# Altium footprint library MountingHole.PcbLib: 167 footprints (part 10 of 11)
Each footprint in its own frame and in the unit in brackets; x right, y up, seen from the top. Pads: shape width x height; smd on the part's side, far side on the other; paste and mask are expansions set on the pad; w line width, h text height; cw(c..) or ccw(c..) is an arc to the next point about the centre after c.
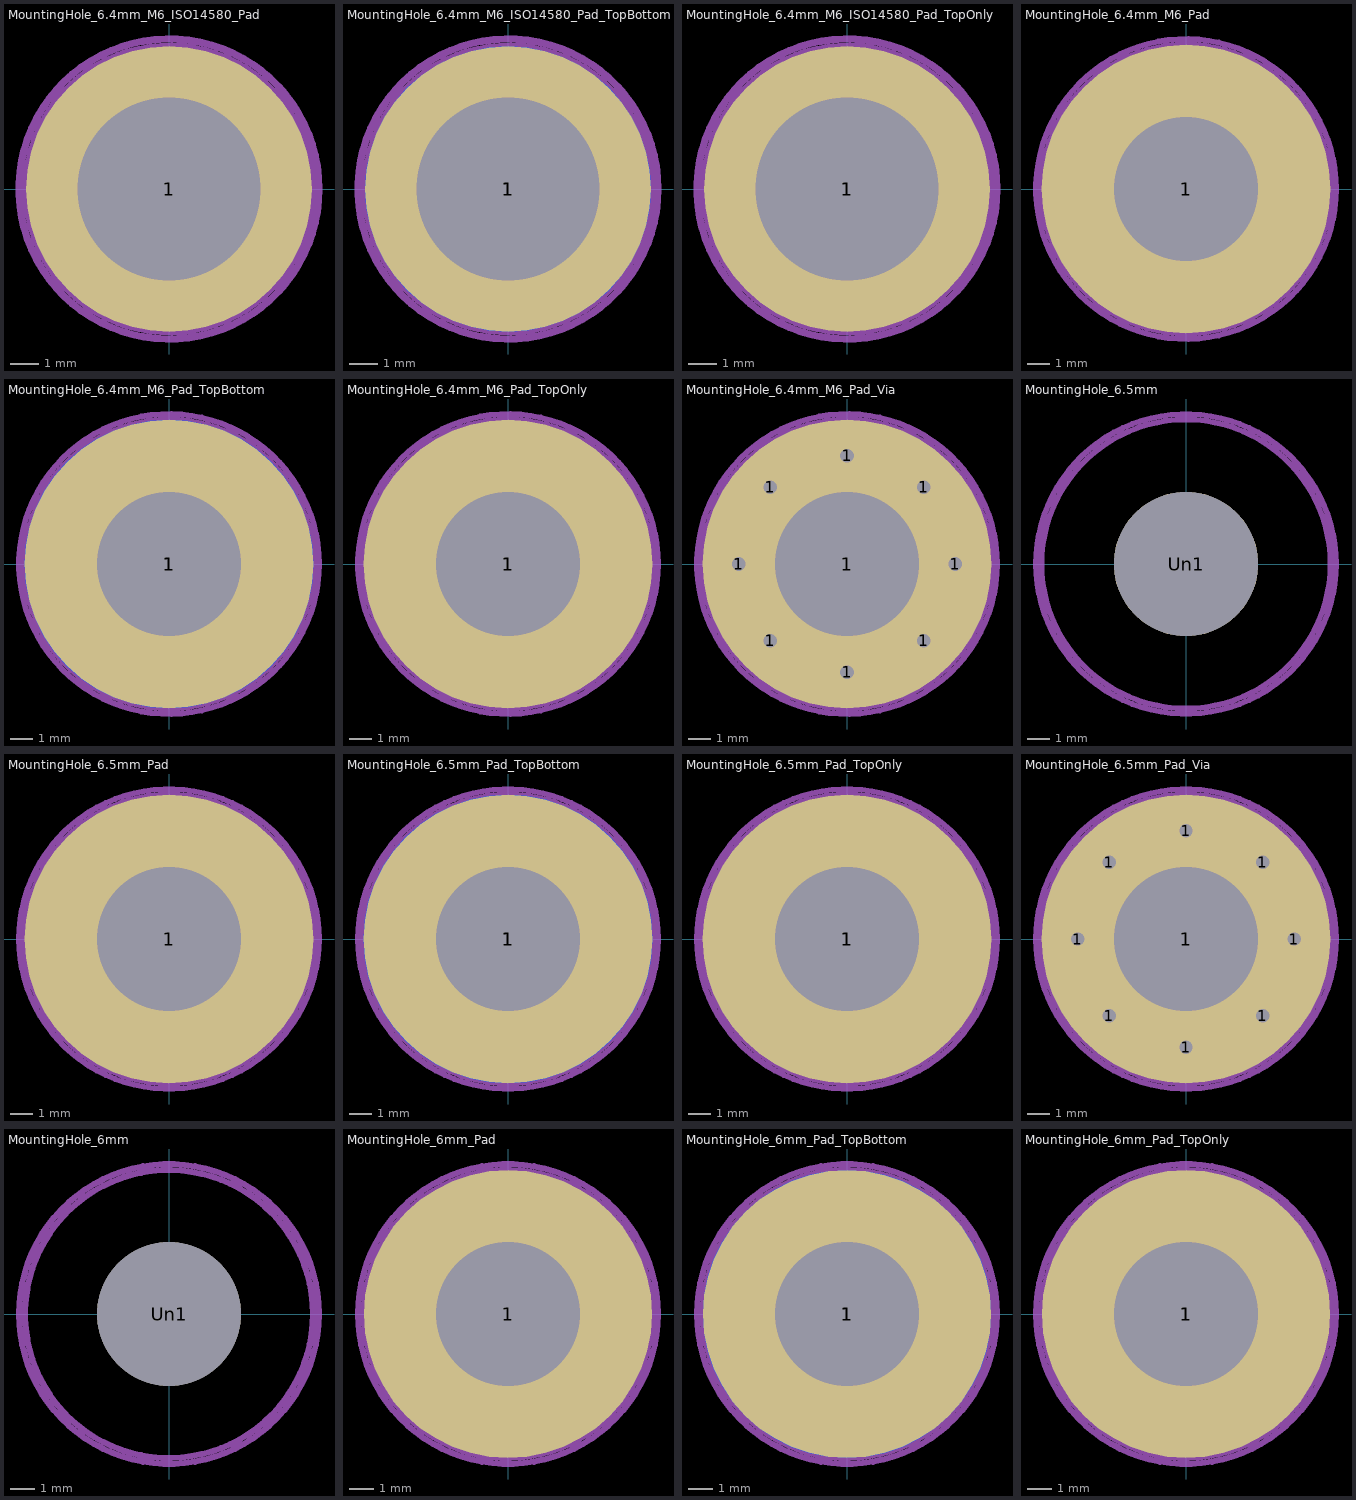
[diagram p9: the footprints below, top view; thin cyan lines are the x and y axes]

## MountingHole_6.4mm_M6_ISO14580_Pad [mm]
pads (1):
  round 10 hole 6.4: 1(0,0)
Top Assembly:
  text "'.Designator'" at -4.047,-0.84 h1
Top Courtyard:
  circle w0.254: c0,0 r5.25
Top Designator:
  text ".Designator" at -7.618,-0.508 h1.52
Cmts.User:
  circle w0.254: c0,0 r5

## MountingHole_6.4mm_M6_ISO14580_Pad_TopBottom [mm]
pads (3):
  round 6.8 hole 6.4: 1(0,0)
  round 10 smd: 1(0,0)
  round 10 smd far side: 1(0,0)
Top Assembly:
  text "'.Designator'" at -4.047,-0.84 h1
Top Courtyard:
  circle w0.254: c0,0 r5.25
Top Designator:
  text ".Designator" at -7.618,-0.508 h1.52
Cmts.User:
  circle w0.254: c0,0 r5

## MountingHole_6.4mm_M6_ISO14580_Pad_TopOnly [mm]
pads (2):
  round 6.8 hole 6.4: 1(0,0)
  round 10 smd: 1(0,0)
Top Assembly:
  text "'.Designator'" at -4.047,-0.84 h1
Top Courtyard:
  circle w0.254: c0,0 r5.25
Top Designator:
  text ".Designator" at -7.618,-0.508 h1.52
Cmts.User:
  circle w0.254: c0,0 r5

## MountingHole_6.4mm_M6_Pad [mm]
pads (1):
  round 12.8 hole 6.4: 1(0,0)
Top Assembly:
  text "'.Designator'" at -4.047,-0.84 h1
Top Courtyard:
  circle w0.254: c0,0 r6.65
Top Designator:
  text ".Designator" at -7.618,-0.508 h1.52
Cmts.User:
  circle w0.254: c0,0 r6.4

## MountingHole_6.4mm_M6_Pad_TopBottom [mm]
pads (3):
  round 6.8 hole 6.4: 1(0,0)
  round 12.8 smd: 1(0,0)
  round 12.8 smd far side: 1(0,0)
Top Assembly:
  text "'.Designator'" at -4.047,-0.84 h1
Top Courtyard:
  circle w0.254: c0,0 r6.65
Top Designator:
  text ".Designator" at -7.618,-0.508 h1.52
Cmts.User:
  circle w0.254: c0,0 r6.4

## MountingHole_6.4mm_M6_Pad_TopOnly [mm]
pads (2):
  round 6.8 hole 6.4: 1(0,0)
  round 12.8 smd: 1(0,0)
Top Assembly:
  text "'.Designator'" at -4.047,-0.84 h1
Top Courtyard:
  circle w0.254: c0,0 r6.65
Top Designator:
  text ".Designator" at -7.618,-0.508 h1.52
Cmts.User:
  circle w0.254: c0,0 r6.4

## MountingHole_6.4mm_M6_Pad_Via [mm]
pads (9):
  round 0.9 hole 0.6: 1(-4.8,0) 1(-3.394,-3.394) 1(-3.394,3.394) 1(0,-4.8) 1(0,4.8) 1(3.394,-3.394) 1(3.394,3.394) 1(4.8,0)
  round 12.8 hole 6.4: 1(0,0)
Top Assembly:
  text "'.Designator'" at -4.047,-0.84 h1
Top Courtyard:
  circle w0.254: c0,0 r6.65
Top Designator:
  text ".Designator" at -7.618,-0.508 h1.52
Cmts.User:
  circle w0.254: c0,0 r6.4

## MountingHole_6.5mm [mm]
pads (1):
  round 6.5 hole 6.5: Un1(0,0)
Top Assembly:
  text "'.Designator'" at -4.047,-0.84 h1
Top Courtyard:
  circle w0.254: c0,0 r6.75
Top Designator:
  text ".Designator" at -7.618,-0.508 h1.52
Cmts.User:
  circle w0.254: c0,0 r6.5

## MountingHole_6.5mm_Pad [mm]
pads (1):
  round 13 hole 6.5: 1(0,0)
Top Assembly:
  text "'.Designator'" at -4.047,-0.84 h1
Top Courtyard:
  circle w0.254: c0,0 r6.75
Top Designator:
  text ".Designator" at -7.618,-0.508 h1.52
Cmts.User:
  circle w0.254: c0,0 r6.5

## MountingHole_6.5mm_Pad_TopBottom [mm]
pads (3):
  round 6.9 hole 6.5: 1(0,0)
  round 13 smd: 1(0,0)
  round 13 smd far side: 1(0,0)
Top Assembly:
  text "'.Designator'" at -4.047,-0.84 h1
Top Courtyard:
  circle w0.254: c0,0 r6.75
Top Designator:
  text ".Designator" at -7.618,-0.508 h1.52
Cmts.User:
  circle w0.254: c0,0 r6.5

## MountingHole_6.5mm_Pad_TopOnly [mm]
pads (2):
  round 6.9 hole 6.5: 1(0,0)
  round 13 smd: 1(0,0)
Top Assembly:
  text "'.Designator'" at -4.047,-0.84 h1
Top Courtyard:
  circle w0.254: c0,0 r6.75
Top Designator:
  text ".Designator" at -7.618,-0.508 h1.52
Cmts.User:
  circle w0.254: c0,0 r6.5

## MountingHole_6.5mm_Pad_Via [mm]
pads (9):
  round 0.9 hole 0.6: 1(-4.875,0) 1(-3.447,-3.447) 1(-3.447,3.447) 1(0,-4.875) 1(0,4.875) 1(3.447,-3.447) 1(3.447,3.447) 1(4.875,0)
  round 13 hole 6.5: 1(0,0)
Top Assembly:
  text "'.Designator'" at -4.047,-0.84 h1
Top Courtyard:
  circle w0.254: c0,0 r6.75
Top Designator:
  text ".Designator" at -7.618,-0.508 h1.52
Cmts.User:
  circle w0.254: c0,0 r6.5

## MountingHole_6mm [mm]
pads (1):
  round 6 hole 6: Un1(0,0)
Top Assembly:
  text "'.Designator'" at -4.047,-0.84 h1
Top Courtyard:
  circle w0.254: c0,0 r6.25
Top Designator:
  text ".Designator" at -7.618,-0.508 h1.52
Cmts.User:
  circle w0.254: c0,0 r6

## MountingHole_6mm_Pad [mm]
pads (1):
  round 12 hole 6: 1(0,0)
Top Assembly:
  text "'.Designator'" at -4.047,-0.84 h1
Top Courtyard:
  circle w0.254: c0,0 r6.25
Top Designator:
  text ".Designator" at -7.618,-0.508 h1.52
Cmts.User:
  circle w0.254: c0,0 r6

## MountingHole_6mm_Pad_TopBottom [mm]
pads (3):
  round 6.4 hole 6: 1(0,0)
  round 12 smd: 1(0,0)
  round 12 smd far side: 1(0,0)
Top Assembly:
  text "'.Designator'" at -4.047,-0.84 h1
Top Courtyard:
  circle w0.254: c0,0 r6.25
Top Designator:
  text ".Designator" at -7.618,-0.508 h1.52
Cmts.User:
  circle w0.254: c0,0 r6

## MountingHole_6mm_Pad_TopOnly [mm]
pads (2):
  round 6.4 hole 6: 1(0,0)
  round 12 smd: 1(0,0)
Top Assembly:
  text "'.Designator'" at -4.047,-0.84 h1
Top Courtyard:
  circle w0.254: c0,0 r6.25
Top Designator:
  text ".Designator" at -7.618,-0.508 h1.52
Cmts.User:
  circle w0.254: c0,0 r6